# Altium integrated library 2-87160-0.IntLib: 1 symbol
Pins are listed as number, name and electrical type; pins without a type are passive.

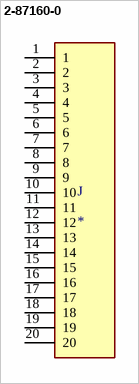
[diagram p0: symbol 2-87160-0]

## 2-87160-0
designator J
20 MODI HDR SRST .156CL; MP: 2-87160-0; Centerline_Pitch: 3.96 mm[.156 in]; Product_Type: Connector; Number_of_Positions: 20; MF: TE Connectivity; Value: *; Availability: Unavailable; Package: None; Price: None; SnapEDA_Link: https://www.snapeda.com/parts/2-87160-0/TE%20Connectivity/view-part/1411035/?ref=snap; EU_RoHS_Compliance: Not Compliant
footprint TE_2-87160-0
pins: 1, 2, 3, 4, 5, 6, 7, 8, 9, 10, 11, 12, 13, 14, 15, 16, 17, 18, 19, 20